# EAGLE library part BAT54CDW-7-F (library Hornet UFC 020a)
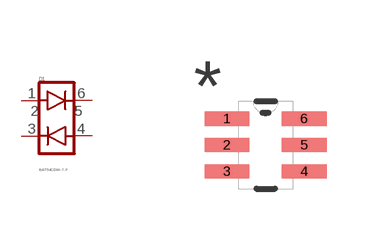
[diagram p0: symbol with the pads of SSOT6; footprint SSOT6]

Designator prefix D1

## BAT54CDW-7-F  [SSOT6]
1  A1  in
2  NC0  nc
3  C2  out
4  A2  in
5  NC1  nc
6  C1  out

## Footprint SSOT6 (pad centres in mm)
smd 1.118 x 0.356: 1 -0.965,0.66; 2 -0.965,0; 3 -0.965,-0.66; 4 0.965,-0.66; 5 0.965,0; 6 0.965,0.66